# Altium integrated library Linear Technology Power Management Hot Swap Controllers.IntLib: 992 symbols (part 2 of 93)
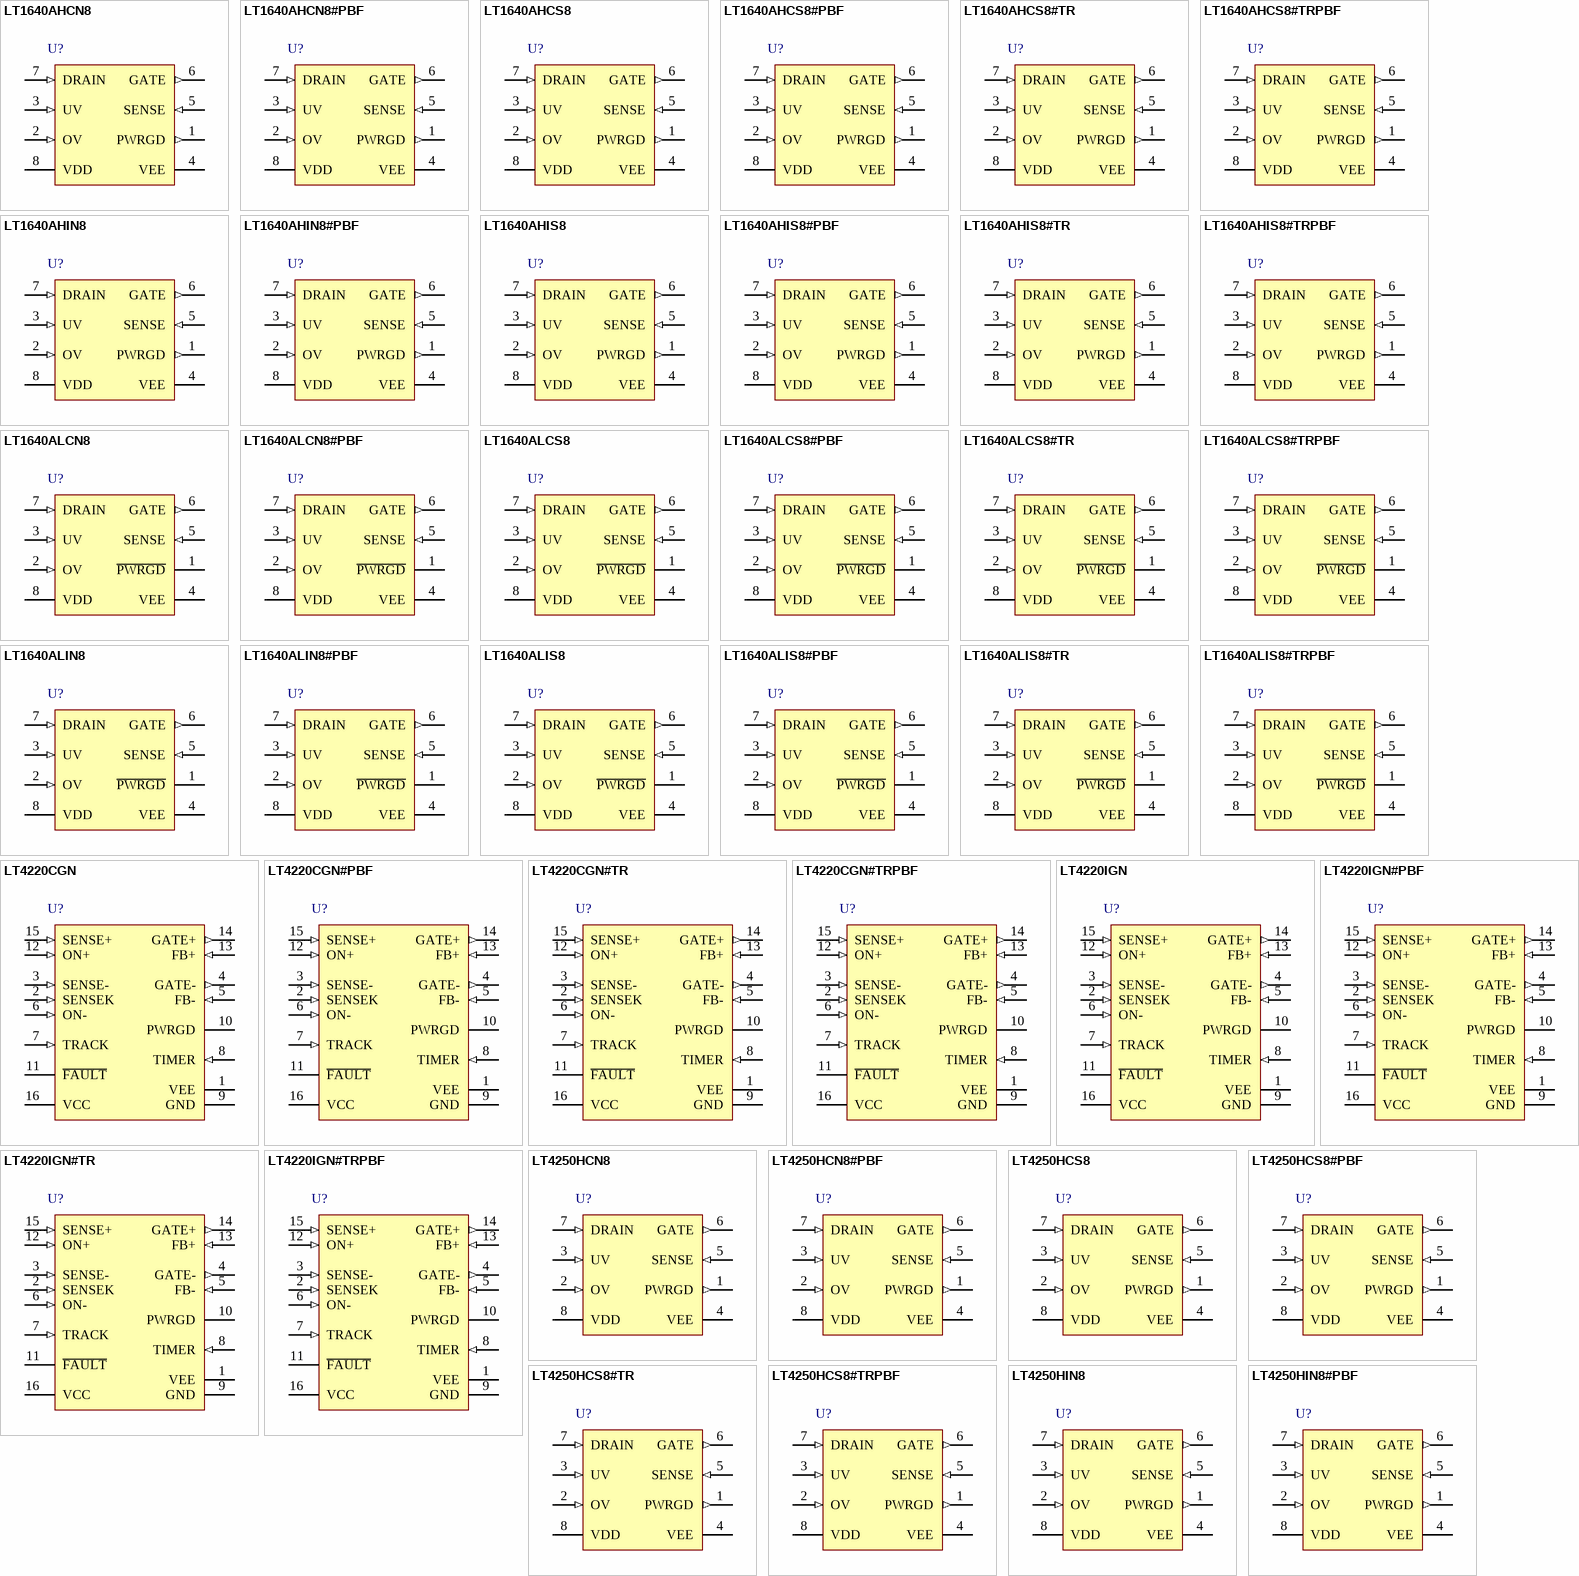
[diagram p38: symbols LT1640AHCN8 to LT4250HIN8#PBF]

## LT4220CGN#PBF
designator U?
Dual Supply Hot Swap Controller, +/-2.7 to +/-16.5 V Vin, 16-pin SOP (GN-16), 0 to 70 degC, Pb-Free; Manufacturer: Linear Technology; PartNumber: LT4220CGN#PBF; Active Limiting: yes; Circuit Breaker Accuracy(%): 17; Circuit Breaker Threshold: 48 mV, -52 mV; Circuit Breakers(#): 2; Extended Temp: C, I; Fast Comparator: no; In-Rush Current: Active; PackageVersion: Rev. B, 03/2012; PackageReference: GN-16; PackageDescription: 16-Pin Plastic SSOP, Body 4.9 x 3.9 mm, Pitch 0.635 mm; Supplier 1: Digi-Key; Supplier Part Number 1: LT4220CGN#PBF-ND; Supplier 2: Farnell; Supplier Part Number 2: 1273823; Supplier 3: Newark; Supplier Part Number 3: 57M8642; Fault: yes; Foldback: yes; Power Good: yes; Reset: no; RoHS: TRUE; Vin Range: +/-2.7 to +/-16.5 V; Mounting Technology: Surface Mount; ComponentLink1Description: Manufacturer URL; ComponentLink1URL: http://www.linear.com/; ComponentLink2Description: Datasheet; ComponentLink2URL: http://cds.linear.com/docs/en/datasheet/4220f.pdf; ComponentLink3Description: Package Specification; ComponentLink3URL: http://cds.linear.com/docs/en/packaging/05081641_B_GN16.pdf
footprint LT-GN-16_N (SOP, 16-Leads, Body 5x4mm, Pitch 0.635mm, IPC Medium Density)
footprint LT-GN-16_L (SOP, 16-Leads, Body 5x4mm, Pitch 0.635mm, IPC High Density)
footprint LT-GN-16_M (SOP, 16-Leads, Body 5x4mm, Pitch 0.635mm, IPC Low Density)
pins: 1 VEE (power) "Negative Supply. The negative supply input ranges from -2.7V to -16.5V for normal operation. IEE is typically -1.6mA. An internal undervoltage lockout circuit disables the device for inputs greater than -2.45V. A 10 ohm, 1 (See Datasheet)", 2 SENSEK (in) "Negative Supply Current Limit Kelvin Sense Pin. Connect to VIN-.", 3 SENSE- (in) "Negative Supply Current Limit Sense Pin. A sense resistor is placed in the supply path between SENSEK and SENSE-. The current limit circuit will regulate the voltage across the sense resistor to -50mV (SENSEK - SENSE-) when (See Datasheet)", 4 GATE- (out) "Gate Drive for the External Negative Supply N-Channel FET. An internal 10uA current source drives the pin. An external capacitor connected from the GATE- pin to VOUT- will control the rising slope of the VOUT- signal. The (See Datasheet)", 5 FB- (in) "Negative Power Good Comparator Input. This pin monitors the negative output voltage (VOUT-) with an external resistive divider. When the voltage on FB- is below -1.24V and the initial GATE- drive voltage has reached a (See Datasheet)", 6 ON- (in) "The Negative Supply Good Comparator Input. This pin monitors the negative input voltage (VEE) with an external resistive divider for undervoltage lockout. When the voltage at the ON- pin is below the VON-H high-to-low (See Datasheet)", 7 TRACK (in) "Supply Tracking Mode Control. If the TRACK pin is pulled high, the internal supply tracking circuit will be enabled during start-up. The TRACK circuit monitors the FB+ and the FB- pins to keep their magnitude within a small (See Datasheet)", 8 TIMER (in) "Fault Time Out Control. An external timing capacitor at this pin programs the maximum time the part is allowed to remain in current limit before issuing a fault and turning off the external FETs. Additionally, for (See Datasheet)", 9 GND (power) "Supply Ground Pin.", 10 PWRGD (hiz) "Open-Collector Output to GND. PWRGD goes to high impedance after the initial GATE- and final GATE+ pins have reached their maximum voltage and after the FB+ pin goes above 1.24V low-to-high threshold and after the FB- pin (See Datasheet)", 11 ~{FAULT} (hiz) "Open-Collector Output to GND. The F\A\U\L\T pin is pulled low whenever the TIMER pin rises above VTIMERH (1.24V) threshold, thereby setting the internal fault latch. It goes to high impedance whenever the internal fault (See Datasheet)", 12 ON+ (in) "Positive Supply Good Comparator Input. It monitors the positive input voltage (VCC) with an external resistive divider for undervoltage lockout. When the voltage on ON+ is above the VON+H high-to-low threshold (1.24V) the (See Datasheet)", 13 FB+ (in) "Positive Power Good Comparator Input. This pin monitors the positive output voltage (VOUT+) with an external resistor divider. When the voltage on FB+ is above the VFB+H low-to-high threshold (1.24V) and the GATE+ drive (See Datasheet)", 14 GATE+ (out) "High Side Gate Drive for the External Positive Supply N-Channel FET. An internal charge pump guarantees at least 3.5V above VCC, for supply voltages at +/-2.7V increasing to a minimum of 5V above VCC for supply voltages (See Datasheet)", 15 SENSE+ (in) "Positive Supply Current Limit Sense Pin. A sense resistor must be placed in the supply path between VCC and SENSE+. The current limit circuit will regulate the voltage across the sense resistor to 50mV (VCC - SENSE+) when (See Datasheet)", 16 VCC (power) "Positive Supply. The positive supply input ranges from 2.7V to 16.5V for normal operation. ICC is typically 2.7mA. An internal undervoltage lockout circuit disables the chip for inputs less than 2.45V. Place a 0.1mF bypass (See Datasheet)"

## LT4220CGN#TR
designator U?
Dual Supply Hot Swap Controller, +/-2.7 to +/-16.5 V Vin, 16-pin SOP (GN-16), 0 to 70 degC, Tape and Reel; Manufacturer: Linear Technology; PartNumber: LT4220CGN#TR; Active Limiting: yes; Circuit Breaker Accuracy(%): 17; Circuit Breaker Threshold: 48 mV, -52 mV; Circuit Breakers(#): 2; Extended Temp: C, I; Fast Comparator: no; In-Rush Current: Active; PackageVersion: Rev. B, 03/2012; PackageReference: GN-16; PackageDescription: 16-Pin Plastic SSOP, Body 4.9 x 3.9 mm, Pitch 0.635 mm; Supplier 1: Digi-Key; Supplier Part Number 1: LT4220CGN#TR-ND; Fault: yes; Foldback: yes; Packing: Tape and Reel; Power Good: yes; Reset: no; RoHS: FALSE; Vin Range: +/-2.7 to +/-16.5 V; Mounting Technology: Surface Mount; ComponentLink1Description: Manufacturer URL; ComponentLink1URL: http://www.linear.com/; ComponentLink2Description: Datasheet; ComponentLink2URL: http://cds.linear.com/docs/en/datasheet/4220f.pdf; ComponentLink3Description: Package Specification; ComponentLink3URL: http://cds.linear.com/docs/en/packaging/05081641_B_GN16.pdf
footprint LT-GN-16_N (SOP, 16-Leads, Body 5x4mm, Pitch 0.635mm, IPC Medium Density)
footprint LT-GN-16_L (SOP, 16-Leads, Body 5x4mm, Pitch 0.635mm, IPC High Density)
footprint LT-GN-16_M (SOP, 16-Leads, Body 5x4mm, Pitch 0.635mm, IPC Low Density)
pins: 1 VEE (power) "Negative Supply. The negative supply input ranges from -2.7V to -16.5V for normal operation. IEE is typically -1.6mA. An internal undervoltage lockout circuit disables the device for inputs greater than -2.45V. A 10 ohm, 1 (See Datasheet)", 2 SENSEK (in) "Negative Supply Current Limit Kelvin Sense Pin. Connect to VIN-.", 3 SENSE- (in) "Negative Supply Current Limit Sense Pin. A sense resistor is placed in the supply path between SENSEK and SENSE-. The current limit circuit will regulate the voltage across the sense resistor to -50mV (SENSEK - SENSE-) when (See Datasheet)", 4 GATE- (out) "Gate Drive for the External Negative Supply N-Channel FET. An internal 10uA current source drives the pin. An external capacitor connected from the GATE- pin to VOUT- will control the rising slope of the VOUT- signal. The (See Datasheet)", 5 FB- (in) "Negative Power Good Comparator Input. This pin monitors the negative output voltage (VOUT-) with an external resistive divider. When the voltage on FB- is below -1.24V and the initial GATE- drive voltage has reached a (See Datasheet)", 6 ON- (in) "The Negative Supply Good Comparator Input. This pin monitors the negative input voltage (VEE) with an external resistive divider for undervoltage lockout. When the voltage at the ON- pin is below the VON-H high-to-low (See Datasheet)", 7 TRACK (in) "Supply Tracking Mode Control. If the TRACK pin is pulled high, the internal supply tracking circuit will be enabled during start-up. The TRACK circuit monitors the FB+ and the FB- pins to keep their magnitude within a small (See Datasheet)", 8 TIMER (in) "Fault Time Out Control. An external timing capacitor at this pin programs the maximum time the part is allowed to remain in current limit before issuing a fault and turning off the external FETs. Additionally, for (See Datasheet)", 9 GND (power) "Supply Ground Pin.", 10 PWRGD (hiz) "Open-Collector Output to GND. PWRGD goes to high impedance after the initial GATE- and final GATE+ pins have reached their maximum voltage and after the FB+ pin goes above 1.24V low-to-high threshold and after the FB- pin (See Datasheet)", 11 ~{FAULT} (hiz) "Open-Collector Output to GND. The F\A\U\L\T pin is pulled low whenever the TIMER pin rises above VTIMERH (1.24V) threshold, thereby setting the internal fault latch. It goes to high impedance whenever the internal fault (See Datasheet)", 12 ON+ (in) "Positive Supply Good Comparator Input. It monitors the positive input voltage (VCC) with an external resistive divider for undervoltage lockout. When the voltage on ON+ is above the VON+H high-to-low threshold (1.24V) the (See Datasheet)", 13 FB+ (in) "Positive Power Good Comparator Input. This pin monitors the positive output voltage (VOUT+) with an external resistor divider. When the voltage on FB+ is above the VFB+H low-to-high threshold (1.24V) and the GATE+ drive (See Datasheet)", 14 GATE+ (out) "High Side Gate Drive for the External Positive Supply N-Channel FET. An internal charge pump guarantees at least 3.5V above VCC, for supply voltages at +/-2.7V increasing to a minimum of 5V above VCC for supply voltages (See Datasheet)", 15 SENSE+ (in) "Positive Supply Current Limit Sense Pin. A sense resistor must be placed in the supply path between VCC and SENSE+. The current limit circuit will regulate the voltage across the sense resistor to 50mV (VCC - SENSE+) when (See Datasheet)", 16 VCC (power) "Positive Supply. The positive supply input ranges from 2.7V to 16.5V for normal operation. ICC is typically 2.7mA. An internal undervoltage lockout circuit disables the chip for inputs less than 2.45V. Place a 0.1mF bypass (See Datasheet)"

## LT4220CGN#TRPBF
designator U?
Dual Supply Hot Swap Controller, +/-2.7 to +/-16.5 V Vin, 16-pin SOP (GN-16), 0 to 70 degC, Pb-Free, Tape and Reel; Manufacturer: Linear Technology; PartNumber: LT4220CGN#TRPBF; Active Limiting: yes; Circuit Breaker Accuracy(%): 17; Circuit Breaker Threshold: 48 mV, -52 mV; Circuit Breakers(#): 2; Extended Temp: C, I; Fast Comparator: no; In-Rush Current: Active; PackageVersion: Rev. B, 03/2012; PackageReference: GN-16; PackageDescription: 16-Pin Plastic SSOP, Body 4.9 x 3.9 mm, Pitch 0.635 mm; Supplier 1: Digi-Key; Supplier Part Number 1: LT4220CGN#TRPBF-ND; Fault: yes; Foldback: yes; Packing: Tape and Reel; Power Good: yes; Reset: no; RoHS: TRUE; Vin Range: +/-2.7 to +/-16.5 V; Mounting Technology: Surface Mount; ComponentLink1Description: Manufacturer URL; ComponentLink1URL: http://www.linear.com/; ComponentLink2Description: Datasheet; ComponentLink2URL: http://cds.linear.com/docs/en/datasheet/4220f.pdf; ComponentLink3Description: Package Specification; ComponentLink3URL: http://cds.linear.com/docs/en/packaging/05081641_B_GN16.pdf
footprint LT-GN-16_N (SOP, 16-Leads, Body 5x4mm, Pitch 0.635mm, IPC Medium Density)
footprint LT-GN-16_L (SOP, 16-Leads, Body 5x4mm, Pitch 0.635mm, IPC High Density)
footprint LT-GN-16_M (SOP, 16-Leads, Body 5x4mm, Pitch 0.635mm, IPC Low Density)
pins: 1 VEE (power) "Negative Supply. The negative supply input ranges from -2.7V to -16.5V for normal operation. IEE is typically -1.6mA. An internal undervoltage lockout circuit disables the device for inputs greater than -2.45V. A 10 ohm, 1 (See Datasheet)", 2 SENSEK (in) "Negative Supply Current Limit Kelvin Sense Pin. Connect to VIN-.", 3 SENSE- (in) "Negative Supply Current Limit Sense Pin. A sense resistor is placed in the supply path between SENSEK and SENSE-. The current limit circuit will regulate the voltage across the sense resistor to -50mV (SENSEK - SENSE-) when (See Datasheet)", 4 GATE- (out) "Gate Drive for the External Negative Supply N-Channel FET. An internal 10uA current source drives the pin. An external capacitor connected from the GATE- pin to VOUT- will control the rising slope of the VOUT- signal. The (See Datasheet)", 5 FB- (in) "Negative Power Good Comparator Input. This pin monitors the negative output voltage (VOUT-) with an external resistive divider. When the voltage on FB- is below -1.24V and the initial GATE- drive voltage has reached a (See Datasheet)", 6 ON- (in) "The Negative Supply Good Comparator Input. This pin monitors the negative input voltage (VEE) with an external resistive divider for undervoltage lockout. When the voltage at the ON- pin is below the VON-H high-to-low (See Datasheet)", 7 TRACK (in) "Supply Tracking Mode Control. If the TRACK pin is pulled high, the internal supply tracking circuit will be enabled during start-up. The TRACK circuit monitors the FB+ and the FB- pins to keep their magnitude within a small (See Datasheet)", 8 TIMER (in) "Fault Time Out Control. An external timing capacitor at this pin programs the maximum time the part is allowed to remain in current limit before issuing a fault and turning off the external FETs. Additionally, for (See Datasheet)", 9 GND (power) "Supply Ground Pin.", 10 PWRGD (hiz) "Open-Collector Output to GND. PWRGD goes to high impedance after the initial GATE- and final GATE+ pins have reached their maximum voltage and after the FB+ pin goes above 1.24V low-to-high threshold and after the FB- pin (See Datasheet)", 11 ~{FAULT} (hiz) "Open-Collector Output to GND. The F\A\U\L\T pin is pulled low whenever the TIMER pin rises above VTIMERH (1.24V) threshold, thereby setting the internal fault latch. It goes to high impedance whenever the internal fault (See Datasheet)", 12 ON+ (in) "Positive Supply Good Comparator Input. It monitors the positive input voltage (VCC) with an external resistive divider for undervoltage lockout. When the voltage on ON+ is above the VON+H high-to-low threshold (1.24V) the (See Datasheet)", 13 FB+ (in) "Positive Power Good Comparator Input. This pin monitors the positive output voltage (VOUT+) with an external resistor divider. When the voltage on FB+ is above the VFB+H low-to-high threshold (1.24V) and the GATE+ drive (See Datasheet)", 14 GATE+ (out) "High Side Gate Drive for the External Positive Supply N-Channel FET. An internal charge pump guarantees at least 3.5V above VCC, for supply voltages at +/-2.7V increasing to a minimum of 5V above VCC for supply voltages (See Datasheet)", 15 SENSE+ (in) "Positive Supply Current Limit Sense Pin. A sense resistor must be placed in the supply path between VCC and SENSE+. The current limit circuit will regulate the voltage across the sense resistor to 50mV (VCC - SENSE+) when (See Datasheet)", 16 VCC (power) "Positive Supply. The positive supply input ranges from 2.7V to 16.5V for normal operation. ICC is typically 2.7mA. An internal undervoltage lockout circuit disables the chip for inputs less than 2.45V. Place a 0.1mF bypass (See Datasheet)"

## LT4220IGN
designator U?
Dual Supply Hot Swap Controller, +/-2.7 to +/-16.5 V Vin, 16-pin SOP (GN-16), -40 to 85 degC; Manufacturer: Linear Technology; PartNumber: LT4220IGN; Active Limiting: yes; Circuit Breaker Accuracy(%): 17; Circuit Breaker Threshold: 48 mV, -52 mV; Circuit Breakers(#): 2; Extended Temp: C, I; Fast Comparator: no; In-Rush Current: Active; PackageVersion: Rev. B, 03/2012; PackageReference: GN-16; PackageDescription: 16-Pin Plastic SSOP, Body 4.9 x 3.9 mm, Pitch 0.635 mm; Supplier 1: Digi-Key; Supplier Part Number 1: LT4220IGN-ND; Supplier 2: Newark; Supplier Part Number 2: 57M8645; Fault: yes; Foldback: yes; Power Good: yes; Reset: no; RoHS: FALSE; Vin Range: +/-2.7 to +/-16.5 V; Mounting Technology: Surface Mount; ComponentLink1Description: Manufacturer URL; ComponentLink1URL: http://www.linear.com/; ComponentLink2Description: Datasheet; ComponentLink2URL: http://cds.linear.com/docs/en/datasheet/4220f.pdf; ComponentLink3Description: Package Specification; ComponentLink3URL: http://cds.linear.com/docs/en/packaging/05081641_B_GN16.pdf
footprint LT-GN-16_N (SOP, 16-Leads, Body 5x4mm, Pitch 0.635mm, IPC Medium Density)
footprint LT-GN-16_L (SOP, 16-Leads, Body 5x4mm, Pitch 0.635mm, IPC High Density)
footprint LT-GN-16_M (SOP, 16-Leads, Body 5x4mm, Pitch 0.635mm, IPC Low Density)
pins: 1 VEE (power) "Negative Supply. The negative supply input ranges from -2.7V to -16.5V for normal operation. IEE is typically -1.6mA. An internal undervoltage lockout circuit disables the device for inputs greater than -2.45V. A 10 ohm, 1 (See Datasheet)", 2 SENSEK (in) "Negative Supply Current Limit Kelvin Sense Pin. Connect to VIN-.", 3 SENSE- (in) "Negative Supply Current Limit Sense Pin. A sense resistor is placed in the supply path between SENSEK and SENSE-. The current limit circuit will regulate the voltage across the sense resistor to -50mV (SENSEK - SENSE-) when (See Datasheet)", 4 GATE- (out) "Gate Drive for the External Negative Supply N-Channel FET. An internal 10uA current source drives the pin. An external capacitor connected from the GATE- pin to VOUT- will control the rising slope of the VOUT- signal. The (See Datasheet)", 5 FB- (in) "Negative Power Good Comparator Input. This pin monitors the negative output voltage (VOUT-) with an external resistive divider. When the voltage on FB- is below -1.24V and the initial GATE- drive voltage has reached a (See Datasheet)", 6 ON- (in) "The Negative Supply Good Comparator Input. This pin monitors the negative input voltage (VEE) with an external resistive divider for undervoltage lockout. When the voltage at the ON- pin is below the VON-H high-to-low (See Datasheet)", 7 TRACK (in) "Supply Tracking Mode Control. If the TRACK pin is pulled high, the internal supply tracking circuit will be enabled during start-up. The TRACK circuit monitors the FB+ and the FB- pins to keep their magnitude within a small (See Datasheet)", 8 TIMER (in) "Fault Time Out Control. An external timing capacitor at this pin programs the maximum time the part is allowed to remain in current limit before issuing a fault and turning off the external FETs. Additionally, for (See Datasheet)", 9 GND (power) "Supply Ground Pin.", 10 PWRGD (hiz) "Open-Collector Output to GND. PWRGD goes to high impedance after the initial GATE- and final GATE+ pins have reached their maximum voltage and after the FB+ pin goes above 1.24V low-to-high threshold and after the FB- pin (See Datasheet)", 11 ~{FAULT} (hiz) "Open-Collector Output to GND. The F\A\U\L\T pin is pulled low whenever the TIMER pin rises above VTIMERH (1.24V) threshold, thereby setting the internal fault latch. It goes to high impedance whenever the internal fault (See Datasheet)", 12 ON+ (in) "Positive Supply Good Comparator Input. It monitors the positive input voltage (VCC) with an external resistive divider for undervoltage lockout. When the voltage on ON+ is above the VON+H high-to-low threshold (1.24V) the (See Datasheet)", 13 FB+ (in) "Positive Power Good Comparator Input. This pin monitors the positive output voltage (VOUT+) with an external resistor divider. When the voltage on FB+ is above the VFB+H low-to-high threshold (1.24V) and the GATE+ drive (See Datasheet)", 14 GATE+ (out) "High Side Gate Drive for the External Positive Supply N-Channel FET. An internal charge pump guarantees at least 3.5V above VCC, for supply voltages at +/-2.7V increasing to a minimum of 5V above VCC for supply voltages (See Datasheet)", 15 SENSE+ (in) "Positive Supply Current Limit Sense Pin. A sense resistor must be placed in the supply path between VCC and SENSE+. The current limit circuit will regulate the voltage across the sense resistor to 50mV (VCC - SENSE+) when (See Datasheet)", 16 VCC (power) "Positive Supply. The positive supply input ranges from 2.7V to 16.5V for normal operation. ICC is typically 2.7mA. An internal undervoltage lockout circuit disables the chip for inputs less than 2.45V. Place a 0.1mF bypass (See Datasheet)"

## LT4220IGN#PBF
designator U?
Dual Supply Hot Swap Controller, +/-2.7 to +/-16.5 V Vin, 16-pin SOP (GN-16), -40 to 85 degC, Pb-Free; Manufacturer: Linear Technology; PartNumber: LT4220IGN#PBF; Active Limiting: yes; Circuit Breaker Accuracy(%): 17; Circuit Breaker Threshold: 48 mV, -52 mV; Circuit Breakers(#): 2; Extended Temp: C, I; Fast Comparator: no; In-Rush Current: Active; PackageVersion: Rev. B, 03/2012; PackageReference: GN-16; PackageDescription: 16-Pin Plastic SSOP, Body 4.9 x 3.9 mm, Pitch 0.635 mm; Supplier 1: Digi-Key; Supplier Part Number 1: LT4220IGN#PBF-ND; Fault: yes; Foldback: yes; Power Good: yes; Reset: no; RoHS: TRUE; Vin Range: +/-2.7 to +/-16.5 V; Mounting Technology: Surface Mount; ComponentLink1Description: Manufacturer URL; ComponentLink1URL: http://www.linear.com/; ComponentLink2Description: Datasheet; ComponentLink2URL: http://cds.linear.com/docs/en/datasheet/4220f.pdf; ComponentLink3Description: Package Specification; ComponentLink3URL: http://cds.linear.com/docs/en/packaging/05081641_B_GN16.pdf
footprint LT-GN-16_N (SOP, 16-Leads, Body 5x4mm, Pitch 0.635mm, IPC Medium Density)
footprint LT-GN-16_L (SOP, 16-Leads, Body 5x4mm, Pitch 0.635mm, IPC High Density)
footprint LT-GN-16_M (SOP, 16-Leads, Body 5x4mm, Pitch 0.635mm, IPC Low Density)
pins: 1 VEE (power) "Negative Supply. The negative supply input ranges from -2.7V to -16.5V for normal operation. IEE is typically -1.6mA. An internal undervoltage lockout circuit disables the device for inputs greater than -2.45V. A 10 ohm, 1 (See Datasheet)", 2 SENSEK (in) "Negative Supply Current Limit Kelvin Sense Pin. Connect to VIN-.", 3 SENSE- (in) "Negative Supply Current Limit Sense Pin. A sense resistor is placed in the supply path between SENSEK and SENSE-. The current limit circuit will regulate the voltage across the sense resistor to -50mV (SENSEK - SENSE-) when (See Datasheet)", 4 GATE- (out) "Gate Drive for the External Negative Supply N-Channel FET. An internal 10uA current source drives the pin. An external capacitor connected from the GATE- pin to VOUT- will control the rising slope of the VOUT- signal. The (See Datasheet)", 5 FB- (in) "Negative Power Good Comparator Input. This pin monitors the negative output voltage (VOUT-) with an external resistive divider. When the voltage on FB- is below -1.24V and the initial GATE- drive voltage has reached a (See Datasheet)", 6 ON- (in) "The Negative Supply Good Comparator Input. This pin monitors the negative input voltage (VEE) with an external resistive divider for undervoltage lockout. When the voltage at the ON- pin is below the VON-H high-to-low (See Datasheet)", 7 TRACK (in) "Supply Tracking Mode Control. If the TRACK pin is pulled high, the internal supply tracking circuit will be enabled during start-up. The TRACK circuit monitors the FB+ and the FB- pins to keep their magnitude within a small (See Datasheet)", 8 TIMER (in) "Fault Time Out Control. An external timing capacitor at this pin programs the maximum time the part is allowed to remain in current limit before issuing a fault and turning off the external FETs. Additionally, for (See Datasheet)", 9 GND (power) "Supply Ground Pin.", 10 PWRGD (hiz) "Open-Collector Output to GND. PWRGD goes to high impedance after the initial GATE- and final GATE+ pins have reached their maximum voltage and after the FB+ pin goes above 1.24V low-to-high threshold and after the FB- pin (See Datasheet)", 11 ~{FAULT} (hiz) "Open-Collector Output to GND. The F\A\U\L\T pin is pulled low whenever the TIMER pin rises above VTIMERH (1.24V) threshold, thereby setting the internal fault latch. It goes to high impedance whenever the internal fault (See Datasheet)", 12 ON+ (in) "Positive Supply Good Comparator Input. It monitors the positive input voltage (VCC) with an external resistive divider for undervoltage lockout. When the voltage on ON+ is above the VON+H high-to-low threshold (1.24V) the (See Datasheet)", 13 FB+ (in) "Positive Power Good Comparator Input. This pin monitors the positive output voltage (VOUT+) with an external resistor divider. When the voltage on FB+ is above the VFB+H low-to-high threshold (1.24V) and the GATE+ drive (See Datasheet)", 14 GATE+ (out) "High Side Gate Drive for the External Positive Supply N-Channel FET. An internal charge pump guarantees at least 3.5V above VCC, for supply voltages at +/-2.7V increasing to a minimum of 5V above VCC for supply voltages (See Datasheet)", 15 SENSE+ (in) "Positive Supply Current Limit Sense Pin. A sense resistor must be placed in the supply path between VCC and SENSE+. The current limit circuit will regulate the voltage across the sense resistor to 50mV (VCC - SENSE+) when (See Datasheet)", 16 VCC (power) "Positive Supply. The positive supply input ranges from 2.7V to 16.5V for normal operation. ICC is typically 2.7mA. An internal undervoltage lockout circuit disables the chip for inputs less than 2.45V. Place a 0.1mF bypass (See Datasheet)"

## LT4220IGN#TR
designator U?
Dual Supply Hot Swap Controller, +/-2.7 to +/-16.5 V Vin, 16-pin SOP (GN-16), -40 to 85 degC, Tape and Reel; Manufacturer: Linear Technology; PartNumber: LT4220IGN#TR; Active Limiting: yes; Circuit Breaker Accuracy(%): 17; Circuit Breaker Threshold: 48 mV, -52 mV; Circuit Breakers(#): 2; Extended Temp: C, I; Fast Comparator: no; In-Rush Current: Active; PackageVersion: Rev. B, 03/2012; PackageReference: GN-16; PackageDescription: 16-Pin Plastic SSOP, Body 4.9 x 3.9 mm, Pitch 0.635 mm; Supplier 1: Digi-Key; Supplier Part Number 1: LT4220IGN#TR-ND; Fault: yes; Foldback: yes; Packing: Tape and Reel; Power Good: yes; Reset: no; RoHS: FALSE; Vin Range: +/-2.7 to +/-16.5 V; Mounting Technology: Surface Mount; ComponentLink1Description: Manufacturer URL; ComponentLink1URL: http://www.linear.com/; ComponentLink2Description: Datasheet; ComponentLink2URL: http://cds.linear.com/docs/en/datasheet/4220f.pdf; ComponentLink3Description: Package Specification; ComponentLink3URL: http://cds.linear.com/docs/en/packaging/05081641_B_GN16.pdf
footprint LT-GN-16_N (SOP, 16-Leads, Body 5x4mm, Pitch 0.635mm, IPC Medium Density)
footprint LT-GN-16_L (SOP, 16-Leads, Body 5x4mm, Pitch 0.635mm, IPC High Density)
footprint LT-GN-16_M (SOP, 16-Leads, Body 5x4mm, Pitch 0.635mm, IPC Low Density)
pins: 1 VEE (power) "Negative Supply. The negative supply input ranges from -2.7V to -16.5V for normal operation. IEE is typically -1.6mA. An internal undervoltage lockout circuit disables the device for inputs greater than -2.45V. A 10 ohm, 1 (See Datasheet)", 2 SENSEK (in) "Negative Supply Current Limit Kelvin Sense Pin. Connect to VIN-.", 3 SENSE- (in) "Negative Supply Current Limit Sense Pin. A sense resistor is placed in the supply path between SENSEK and SENSE-. The current limit circuit will regulate the voltage across the sense resistor to -50mV (SENSEK - SENSE-) when (See Datasheet)", 4 GATE- (out) "Gate Drive for the External Negative Supply N-Channel FET. An internal 10uA current source drives the pin. An external capacitor connected from the GATE- pin to VOUT- will control the rising slope of the VOUT- signal. The (See Datasheet)", 5 FB- (in) "Negative Power Good Comparator Input. This pin monitors the negative output voltage (VOUT-) with an external resistive divider. When the voltage on FB- is below -1.24V and the initial GATE- drive voltage has reached a (See Datasheet)", 6 ON- (in) "The Negative Supply Good Comparator Input. This pin monitors the negative input voltage (VEE) with an external resistive divider for undervoltage lockout. When the voltage at the ON- pin is below the VON-H high-to-low (See Datasheet)", 7 TRACK (in) "Supply Tracking Mode Control. If the TRACK pin is pulled high, the internal supply tracking circuit will be enabled during start-up. The TRACK circuit monitors the FB+ and the FB- pins to keep their magnitude within a small (See Datasheet)", 8 TIMER (in) "Fault Time Out Control. An external timing capacitor at this pin programs the maximum time the part is allowed to remain in current limit before issuing a fault and turning off the external FETs. Additionally, for (See Datasheet)", 9 GND (power) "Supply Ground Pin.", 10 PWRGD (hiz) "Open-Collector Output to GND. PWRGD goes to high impedance after the initial GATE- and final GATE+ pins have reached their maximum voltage and after the FB+ pin goes above 1.24V low-to-high threshold and after the FB- pin (See Datasheet)", 11 ~{FAULT} (hiz) "Open-Collector Output to GND. The F\A\U\L\T pin is pulled low whenever the TIMER pin rises above VTIMERH (1.24V) threshold, thereby setting the internal fault latch. It goes to high impedance whenever the internal fault (See Datasheet)", 12 ON+ (in) "Positive Supply Good Comparator Input. It monitors the positive input voltage (VCC) with an external resistive divider for undervoltage lockout. When the voltage on ON+ is above the VON+H high-to-low threshold (1.24V) the (See Datasheet)", 13 FB+ (in) "Positive Power Good Comparator Input. This pin monitors the positive output voltage (VOUT+) with an external resistor divider. When the voltage on FB+ is above the VFB+H low-to-high threshold (1.24V) and the GATE+ drive (See Datasheet)", 14 GATE+ (out) "High Side Gate Drive for the External Positive Supply N-Channel FET. An internal charge pump guarantees at least 3.5V above VCC, for supply voltages at +/-2.7V increasing to a minimum of 5V above VCC for supply voltages (See Datasheet)", 15 SENSE+ (in) "Positive Supply Current Limit Sense Pin. A sense resistor must be placed in the supply path between VCC and SENSE+. The current limit circuit will regulate the voltage across the sense resistor to 50mV (VCC - SENSE+) when (See Datasheet)", 16 VCC (power) "Positive Supply. The positive supply input ranges from 2.7V to 16.5V for normal operation. ICC is typically 2.7mA. An internal undervoltage lockout circuit disables the chip for inputs less than 2.45V. Place a 0.1mF bypass (See Datasheet)"

## LT4220IGN#TRPBF
designator U?
Dual Supply Hot Swap Controller, +/-2.7 to +/-16.5 V Vin, 16-pin SOP (GN-16), -40 to 85 degC, Pb-Free, Tape and Reel; Manufacturer: Linear Technology; PartNumber: LT4220IGN#TRPBF; Active Limiting: yes; Circuit Breaker Accuracy(%): 17; Circuit Breaker Threshold: 48 mV, -52 mV; Circuit Breakers(#): 2; Extended Temp: C, I; Fast Comparator: no; In-Rush Current: Active; PackageVersion: Rev. B, 03/2012; PackageReference: GN-16; PackageDescription: 16-Pin Plastic SSOP, Body 4.9 x 3.9 mm, Pitch 0.635 mm; Supplier 1: Digi-Key; Supplier Part Number 1: LT4220IGN#TRPBF-ND; Fault: yes; Foldback: yes; Packing: Tape and Reel; Power Good: yes; Reset: no; RoHS: TRUE; Vin Range: +/-2.7 to +/-16.5 V; Mounting Technology: Surface Mount; ComponentLink1Description: Manufacturer URL; ComponentLink1URL: http://www.linear.com/; ComponentLink2Description: Datasheet; ComponentLink2URL: http://cds.linear.com/docs/en/datasheet/4220f.pdf; ComponentLink3Description: Package Specification; ComponentLink3URL: http://cds.linear.com/docs/en/packaging/05081641_B_GN16.pdf
footprint LT-GN-16_N (SOP, 16-Leads, Body 5x4mm, Pitch 0.635mm, IPC Medium Density)
footprint LT-GN-16_L (SOP, 16-Leads, Body 5x4mm, Pitch 0.635mm, IPC High Density)
footprint LT-GN-16_M (SOP, 16-Leads, Body 5x4mm, Pitch 0.635mm, IPC Low Density)
pins: 1 VEE (power) "Negative Supply. The negative supply input ranges from -2.7V to -16.5V for normal operation. IEE is typically -1.6mA. An internal undervoltage lockout circuit disables the device for inputs greater than -2.45V. A 10 ohm, 1 (See Datasheet)", 2 SENSEK (in) "Negative Supply Current Limit Kelvin Sense Pin. Connect to VIN-.", 3 SENSE- (in) "Negative Supply Current Limit Sense Pin. A sense resistor is placed in the supply path between SENSEK and SENSE-. The current limit circuit will regulate the voltage across the sense resistor to -50mV (SENSEK - SENSE-) when (See Datasheet)", 4 GATE- (out) "Gate Drive for the External Negative Supply N-Channel FET. An internal 10uA current source drives the pin. An external capacitor connected from the GATE- pin to VOUT- will control the rising slope of the VOUT- signal. The (See Datasheet)", 5 FB- (in) "Negative Power Good Comparator Input. This pin monitors the negative output voltage (VOUT-) with an external resistive divider. When the voltage on FB- is below -1.24V and the initial GATE- drive voltage has reached a (See Datasheet)", 6 ON- (in) "The Negative Supply Good Comparator Input. This pin monitors the negative input voltage (VEE) with an external resistive divider for undervoltage lockout. When the voltage at the ON- pin is below the VON-H high-to-low (See Datasheet)", 7 TRACK (in) "Supply Tracking Mode Control. If the TRACK pin is pulled high, the internal supply tracking circuit will be enabled during start-up. The TRACK circuit monitors the FB+ and the FB- pins to keep their magnitude within a small (See Datasheet)", 8 TIMER (in) "Fault Time Out Control. An external timing capacitor at this pin programs the maximum time the part is allowed to remain in current limit before issuing a fault and turning off the external FETs. Additionally, for (See Datasheet)", 9 GND (power) "Supply Ground Pin.", 10 PWRGD (hiz) "Open-Collector Output to GND. PWRGD goes to high impedance after the initial GATE- and final GATE+ pins have reached their maximum voltage and after the FB+ pin goes above 1.24V low-to-high threshold and after the FB- pin (See Datasheet)", 11 ~{FAULT} (hiz) "Open-Collector Output to GND. The F\A\U\L\T pin is pulled low whenever the TIMER pin rises above VTIMERH (1.24V) threshold, thereby setting the internal fault latch. It goes to high impedance whenever the internal fault (See Datasheet)", 12 ON+ (in) "Positive Supply Good Comparator Input. It monitors the positive input voltage (VCC) with an external resistive divider for undervoltage lockout. When the voltage on ON+ is above the VON+H high-to-low threshold (1.24V) the (See Datasheet)", 13 FB+ (in) "Positive Power Good Comparator Input. This pin monitors the positive output voltage (VOUT+) with an external resistor divider. When the voltage on FB+ is above the VFB+H low-to-high threshold (1.24V) and the GATE+ drive (See Datasheet)", 14 GATE+ (out) "High Side Gate Drive for the External Positive Supply N-Channel FET. An internal charge pump guarantees at least 3.5V above VCC, for supply voltages at +/-2.7V increasing to a minimum of 5V above VCC for supply voltages (See Datasheet)", 15 SENSE+ (in) "Positive Supply Current Limit Sense Pin. A sense resistor must be placed in the supply path between VCC and SENSE+. The current limit circuit will regulate the voltage across the sense resistor to 50mV (VCC - SENSE+) when (See Datasheet)", 16 VCC (power) "Positive Supply. The positive supply input ranges from 2.7V to 16.5V for normal operation. ICC is typically 2.7mA. An internal undervoltage lockout circuit disables the chip for inputs less than 2.45V. Place a 0.1mF bypass (See Datasheet)"

## LT4250HCN8
designator U?
Negative 48 V Hot Swap Controller, -18 to -80 V Vin, 8-pin DIP (N8-8), 0 to 70 degC; Manufacturer: Linear Technology; PartNumber: LT4250HCN8; Active Limiting: yes; Circuit Breaker Accuracy(%): 20; Circuit Breaker Threshold: 50 mV; Circuit Breakers(#): 1; Extended Temp: C, I; Fast Comparator: no; In-Rush Current: Miller Cap; DatasheetVersion: Rev. A; PackageVersion: Rev. I, 07/2011; PackageReference: N8-8; PackageDescription: 8-Pin PDIP, Body 10.16 x 6.48 mm, Pitch 2.54 mm; Supplier 1: Digi-Key; Supplier Part Number 1: LT4250HCN8-ND; Power Good: yes; RoHS: FALSE; Vin Range: -18 to -80 V; Mounting Technology: Through Hole; ComponentLink1Description: Manufacturer URL; ComponentLink1URL: http://www.linear.com/; ComponentLink2Description: Datasheet; ComponentLink2URL: http://cds.linear.com/docs/en/datasheet/4250lhfa.pdf; ComponentLink3Description: Package Specification; ComponentLink3URL: http://www.linear.com/docs/en/packaging/05081510_I_N8.pdf
footprint LT-N8-8 (DIP, 8-Leads, Body 10.15x6.85mm, Pitch 2.54mm)
pins: 1 PWRGD (out) "Power Good Output Pin.This pin will latch a power good indication when VDRAIN is within VDL of VEE and VGATE is within VGH of deltaVGATE. This pin can be connected directly to the enable pin of a power module.", 2 OV (in) "Analog Overvoltage Input.", 3 UV (in) "Analog Undervoltage Input.", 4 VEE (power) "Negative Supply Voltage Input. Connect to the lower potential of the power supply.", 5 SENSE (in) "Circuit Breaker Sense Pin.", 6 GATE (out) "Gate Drive Output for the External N-channel MOSFET.", 7 DRAIN (in) "Analog Drain Sense Input.", 8 VDD (power) "Positive Supply Voltage Input."

## LT4250HCN8#PBF
designator U?
Negative 48 V Hot Swap Controller, -18 to -80 V Vin, 8-pin DIP (N8-8), 0 to 70 degC, Pb-Free; Manufacturer: Linear Technology; PartNumber: LT4250HCN8#PBF; Active Limiting: yes; Circuit Breaker Accuracy(%): 20; Circuit Breaker Threshold: 50 mV; Circuit Breakers(#): 1; Extended Temp: C, I; Fast Comparator: no; In-Rush Current: Miller Cap; DatasheetVersion: Rev. A; PackageVersion: Rev. I, 07/2011; PackageReference: N8-8; PackageDescription: 8-Pin PDIP, Body 10.16 x 6.48 mm, Pitch 2.54 mm; Supplier 1: Digi-Key; Supplier Part Number 1: LT4250HCN8#PBF-ND; Power Good: yes; RoHS: TRUE; Vin Range: -18 to -80 V; Mounting Technology: Through Hole; ComponentLink1Description: Manufacturer URL; ComponentLink1URL: http://www.linear.com/; ComponentLink2Description: Datasheet; ComponentLink2URL: http://cds.linear.com/docs/en/datasheet/4250lhfa.pdf; ComponentLink3Description: Package Specification; ComponentLink3URL: http://www.linear.com/docs/en/packaging/05081510_I_N8.pdf
footprint LT-N8-8 (DIP, 8-Leads, Body 10.15x6.85mm, Pitch 2.54mm)
pins: 1 PWRGD (out) "Power Good Output Pin.This pin will latch a power good indication when VDRAIN is within VDL of VEE and VGATE is within VGH of deltaVGATE. This pin can be connected directly to the enable pin of a power module.", 2 OV (in) "Analog Overvoltage Input.", 3 UV (in) "Analog Undervoltage Input.", 4 VEE (power) "Negative Supply Voltage Input. Connect to the lower potential of the power supply.", 5 SENSE (in) "Circuit Breaker Sense Pin.", 6 GATE (out) "Gate Drive Output for the External N-channel MOSFET.", 7 DRAIN (in) "Analog Drain Sense Input.", 8 VDD (power) "Positive Supply Voltage Input."

## LT4250HCS8
designator U?
Negative 48 V Hot Swap Controller, -18 to -80 V Vin, 8-pin SOIC (S8-8), 0 to 70 degC; Manufacturer: Linear Technology; PartNumber: LT4250HCS8; Active Limiting: yes; Circuit Breaker Accuracy(%): 20; Circuit Breaker Threshold: 50 mV; Circuit Breakers(#): 1; Extended Temp: C, I; Fast Comparator: no; In-Rush Current: Miller Cap; DatasheetVersion: Rev. A; PackageVersion: Rev. G, 03/2012; PackageReference: S8-8; PackageDescription: 8-Pin Plastic Small Outline (Narrow .150 Inch), Body 4.9 x 3.9 mm, Pitch 1.27 mm; Supplier 1: Digi-Key; Supplier Part Number 1: LT4250HCS8-ND; Power Good: yes; RoHS: FALSE; Vin Range: -18 to -80 V; Mounting Technology: Surface Mount; ComponentLink1Description: Manufacturer URL; ComponentLink1URL: http://www.linear.com/; ComponentLink2Description: Datasheet; ComponentLink2URL: http://cds.linear.com/docs/en/datasheet/4250lhfa.pdf; ComponentLink3Description: Package Specification; ComponentLink3URL: http://cds.linear.com/docs/en/packaging/05081610_G_SO8.pdf
footprint LT-S8-8_N (SOIC, 8-Leads, Body 5x4mm, Pitch 1.27mm, IPC Medium Density)
footprint LT-S8-8_L (SOIC, 8-Leads, Body 5x4mm, Pitch 1.27mm, IPC High Density)
footprint LT-S8-8_M (SOIC, 8-Leads, Body 5x4mm, Pitch 1.27mm, IPC Low Density)
pins: 1 PWRGD (out) "Power Good Output Pin.This pin will latch a power good indication when VDRAIN is within VDL of VEE and VGATE is within VGH of deltaVGATE. This pin can be connected directly to the enable pin of a power module.", 2 OV (in) "Analog Overvoltage Input.", 3 UV (in) "Analog Undervoltage Input.", 4 VEE (power) "Negative Supply Voltage Input. Connect to the lower potential of the power supply.", 5 SENSE (in) "Circuit Breaker Sense Pin.", 6 GATE (out) "Gate Drive Output for the External N-channel MOSFET.", 7 DRAIN (in) "Analog Drain Sense Input.", 8 VDD (power) "Positive Supply Voltage Input."

## LT4250HCS8#PBF
designator U?
Negative 48 V Hot Swap Controller, -18 to -80 V Vin, 8-pin SOIC (S8-8), 0 to 70 degC, Pb-Free; Manufacturer: Linear Technology; PartNumber: LT4250HCS8#PBF; Active Limiting: yes; Circuit Breaker Accuracy(%): 20; Circuit Breaker Threshold: 50 mV; Circuit Breakers(#): 1; Extended Temp: C, I; Fast Comparator: no; In-Rush Current: Miller Cap; DatasheetVersion: Rev. A; PackageVersion: Rev. G, 03/2012; PackageReference: S8-8; PackageDescription: 8-Pin Plastic Small Outline (Narrow .150 Inch), Body 4.9 x 3.9 mm, Pitch 1.27 mm; Supplier 1: Digi-Key; Supplier Part Number 1: LT4250HCS8#PBF-ND; Supplier 2: Farnell; Supplier Part Number 2: 2295303; Supplier 3: Newark; Supplier Part Number 3: 57M8652; Power Good: yes; RoHS: TRUE; Vin Range: -18 to -80 V; Mounting Technology: Surface Mount; ComponentLink1Description: Manufacturer URL; ComponentLink1URL: http://www.linear.com/; ComponentLink2Description: Datasheet; ComponentLink2URL: http://cds.linear.com/docs/en/datasheet/4250lhfa.pdf; ComponentLink3Description: Package Specification; ComponentLink3URL: http://cds.linear.com/docs/en/packaging/05081610_G_SO8.pdf
footprint LT-S8-8_N (SOIC, 8-Leads, Body 5x4mm, Pitch 1.27mm, IPC Medium Density)
footprint LT-S8-8_L (SOIC, 8-Leads, Body 5x4mm, Pitch 1.27mm, IPC High Density)
footprint LT-S8-8_M (SOIC, 8-Leads, Body 5x4mm, Pitch 1.27mm, IPC Low Density)
pins: 1 PWRGD (out) "Power Good Output Pin.This pin will latch a power good indication when VDRAIN is within VDL of VEE and VGATE is within VGH of deltaVGATE. This pin can be connected directly to the enable pin of a power module.", 2 OV (in) "Analog Overvoltage Input.", 3 UV (in) "Analog Undervoltage Input.", 4 VEE (power) "Negative Supply Voltage Input. Connect to the lower potential of the power supply.", 5 SENSE (in) "Circuit Breaker Sense Pin.", 6 GATE (out) "Gate Drive Output for the External N-channel MOSFET.", 7 DRAIN (in) "Analog Drain Sense Input.", 8 VDD (power) "Positive Supply Voltage Input."

## LT4250HCS8#TR
designator U?
Negative 48 V Hot Swap Controller, -18 to -80 V Vin, 8-pin SOIC (S8-8), 0 to 70 degC, Tape and Reel; Manufacturer: Linear Technology; PartNumber: LT4250HCS8#TR; Active Limiting: yes; Circuit Breaker Accuracy(%): 20; Circuit Breaker Threshold: 50 mV; Circuit Breakers(#): 1; Extended Temp: C, I; Fast Comparator: no; In-Rush Current: Miller Cap; DatasheetVersion: Rev. A; PackageVersion: Rev. G, 03/2012; PackageReference: S8-8; PackageDescription: 8-Pin Plastic Small Outline (Narrow .150 Inch), Body 4.9 x 3.9 mm, Pitch 1.27 mm; Supplier 1: Digi-Key; Supplier Part Number 1: LT4250HCS8TR-ND; Packing: Tape and Reel; Power Good: yes; RoHS: FALSE; Vin Range: -18 to -80 V; Mounting Technology: Surface Mount; ComponentLink1Description: Manufacturer URL; ComponentLink1URL: http://www.linear.com/; ComponentLink2Description: Datasheet; ComponentLink2URL: http://cds.linear.com/docs/en/datasheet/4250lhfa.pdf; ComponentLink3Description: Package Specification; ComponentLink3URL: http://cds.linear.com/docs/en/packaging/05081610_G_SO8.pdf
footprint LT-S8-8_N (SOIC, 8-Leads, Body 5x4mm, Pitch 1.27mm, IPC Medium Density)
footprint LT-S8-8_L (SOIC, 8-Leads, Body 5x4mm, Pitch 1.27mm, IPC High Density)
footprint LT-S8-8_M (SOIC, 8-Leads, Body 5x4mm, Pitch 1.27mm, IPC Low Density)
pins: 1 PWRGD (out) "Power Good Output Pin.This pin will latch a power good indication when VDRAIN is within VDL of VEE and VGATE is within VGH of deltaVGATE. This pin can be connected directly to the enable pin of a power module.", 2 OV (in) "Analog Overvoltage Input.", 3 UV (in) "Analog Undervoltage Input.", 4 VEE (power) "Negative Supply Voltage Input. Connect to the lower potential of the power supply.", 5 SENSE (in) "Circuit Breaker Sense Pin.", 6 GATE (out) "Gate Drive Output for the External N-channel MOSFET.", 7 DRAIN (in) "Analog Drain Sense Input.", 8 VDD (power) "Positive Supply Voltage Input."

## LT4250HCS8#TRPBF
designator U?
Negative 48 V Hot Swap Controller, -18 to -80 V Vin, 8-pin SOIC (S8-8), 0 to 70 degC, Pb-Free, Tape and Reel; Manufacturer: Linear Technology; PartNumber: LT4250HCS8#TRPBF; Active Limiting: yes; Circuit Breaker Accuracy(%): 20; Circuit Breaker Threshold: 50 mV; Circuit Breakers(#): 1; Extended Temp: C, I; Fast Comparator: no; In-Rush Current: Miller Cap; DatasheetVersion: Rev. A; PackageVersion: Rev. G, 03/2012; PackageReference: S8-8; PackageDescription: 8-Pin Plastic Small Outline (Narrow .150 Inch), Body 4.9 x 3.9 mm, Pitch 1.27 mm; Supplier 1: Digi-Key; Supplier Part Number 1: LT4250HCS8#TRPBF-ND; Packing: Tape and Reel; Power Good: yes; RoHS: TRUE; Vin Range: -18 to -80 V; Mounting Technology: Surface Mount; ComponentLink1Description: Manufacturer URL; ComponentLink1URL: http://www.linear.com/; ComponentLink2Description: Datasheet; ComponentLink2URL: http://cds.linear.com/docs/en/datasheet/4250lhfa.pdf; ComponentLink3Description: Package Specification; ComponentLink3URL: http://cds.linear.com/docs/en/packaging/05081610_G_SO8.pdf
footprint LT-S8-8_N (SOIC, 8-Leads, Body 5x4mm, Pitch 1.27mm, IPC Medium Density)
footprint LT-S8-8_L (SOIC, 8-Leads, Body 5x4mm, Pitch 1.27mm, IPC High Density)
footprint LT-S8-8_M (SOIC, 8-Leads, Body 5x4mm, Pitch 1.27mm, IPC Low Density)
pins: 1 PWRGD (out) "Power Good Output Pin.This pin will latch a power good indication when VDRAIN is within VDL of VEE and VGATE is within VGH of deltaVGATE. This pin can be connected directly to the enable pin of a power module.", 2 OV (in) "Analog Overvoltage Input.", 3 UV (in) "Analog Undervoltage Input.", 4 VEE (power) "Negative Supply Voltage Input. Connect to the lower potential of the power supply.", 5 SENSE (in) "Circuit Breaker Sense Pin.", 6 GATE (out) "Gate Drive Output for the External N-channel MOSFET.", 7 DRAIN (in) "Analog Drain Sense Input.", 8 VDD (power) "Positive Supply Voltage Input."

## LT4250HIN8
designator U?
Negative 48 V Hot Swap Controller, -18 to -80 V Vin, 8-pin DIP (N8-8), -40 to 85 degC; Manufacturer: Linear Technology; PartNumber: LT4250HIN8; Active Limiting: yes; Circuit Breaker Accuracy(%): 20; Circuit Breaker Threshold: 50 mV; Circuit Breakers(#): 1; Extended Temp: C, I; Fast Comparator: no; In-Rush Current: Miller Cap; DatasheetVersion: Rev. A; PackageVersion: Rev. I, 07/2011; PackageReference: N8-8; PackageDescription: 8-Pin PDIP, Body 10.16 x 6.48 mm, Pitch 2.54 mm; Supplier 1: Digi-Key; Supplier Part Number 1: LT4250HIN8-ND; Power Good: yes; RoHS: FALSE; Vin Range: -18 to -80 V; Mounting Technology: Through Hole; ComponentLink1Description: Manufacturer URL; ComponentLink1URL: http://www.linear.com/; ComponentLink2Description: Datasheet; ComponentLink2URL: http://cds.linear.com/docs/en/datasheet/4250lhfa.pdf; ComponentLink3Description: Package Specification; ComponentLink3URL: http://www.linear.com/docs/en/packaging/05081510_I_N8.pdf
footprint LT-N8-8 (DIP, 8-Leads, Body 10.15x6.85mm, Pitch 2.54mm)
pins: 1 PWRGD (out) "Power Good Output Pin.This pin will latch a power good indication when VDRAIN is within VDL of VEE and VGATE is within VGH of deltaVGATE. This pin can be connected directly to the enable pin of a power module.", 2 OV (in) "Analog Overvoltage Input.", 3 UV (in) "Analog Undervoltage Input.", 4 VEE (power) "Negative Supply Voltage Input. Connect to the lower potential of the power supply.", 5 SENSE (in) "Circuit Breaker Sense Pin.", 6 GATE (out) "Gate Drive Output for the External N-channel MOSFET.", 7 DRAIN (in) "Analog Drain Sense Input.", 8 VDD (power) "Positive Supply Voltage Input."

## LT4250HIN8#PBF
designator U?
Negative 48 V Hot Swap Controller, -18 to -80 V Vin, 8-pin DIP (N8-8), -40 to 85 degC, Pb-Free; Manufacturer: Linear Technology; PartNumber: LT4250HIN8#PBF; Active Limiting: yes; Circuit Breaker Accuracy(%): 20; Circuit Breaker Threshold: 50 mV; Circuit Breakers(#): 1; Extended Temp: C, I; Fast Comparator: no; In-Rush Current: Miller Cap; DatasheetVersion: Rev. A; PackageVersion: Rev. I, 07/2011; PackageReference: N8-8; PackageDescription: 8-Pin PDIP, Body 10.16 x 6.48 mm, Pitch 2.54 mm; Supplier 1: Digi-Key; Supplier Part Number 1: LT4250HIN8#PBF-ND; Power Good: yes; RoHS: TRUE; Vin Range: -18 to -80 V; Mounting Technology: Through Hole; ComponentLink1Description: Manufacturer URL; ComponentLink1URL: http://www.linear.com/; ComponentLink2Description: Datasheet; ComponentLink2URL: http://cds.linear.com/docs/en/datasheet/4250lhfa.pdf; ComponentLink3Description: Package Specification; ComponentLink3URL: http://www.linear.com/docs/en/packaging/05081510_I_N8.pdf
footprint LT-N8-8 (DIP, 8-Leads, Body 10.15x6.85mm, Pitch 2.54mm)
pins: 1 PWRGD (out) "Power Good Output Pin.This pin will latch a power good indication when VDRAIN is within VDL of VEE and VGATE is within VGH of deltaVGATE. This pin can be connected directly to the enable pin of a power module.", 2 OV (in) "Analog Overvoltage Input.", 3 UV (in) "Analog Undervoltage Input.", 4 VEE (power) "Negative Supply Voltage Input. Connect to the lower potential of the power supply.", 5 SENSE (in) "Circuit Breaker Sense Pin.", 6 GATE (out) "Gate Drive Output for the External N-channel MOSFET.", 7 DRAIN (in) "Analog Drain Sense Input.", 8 VDD (power) "Positive Supply Voltage Input."

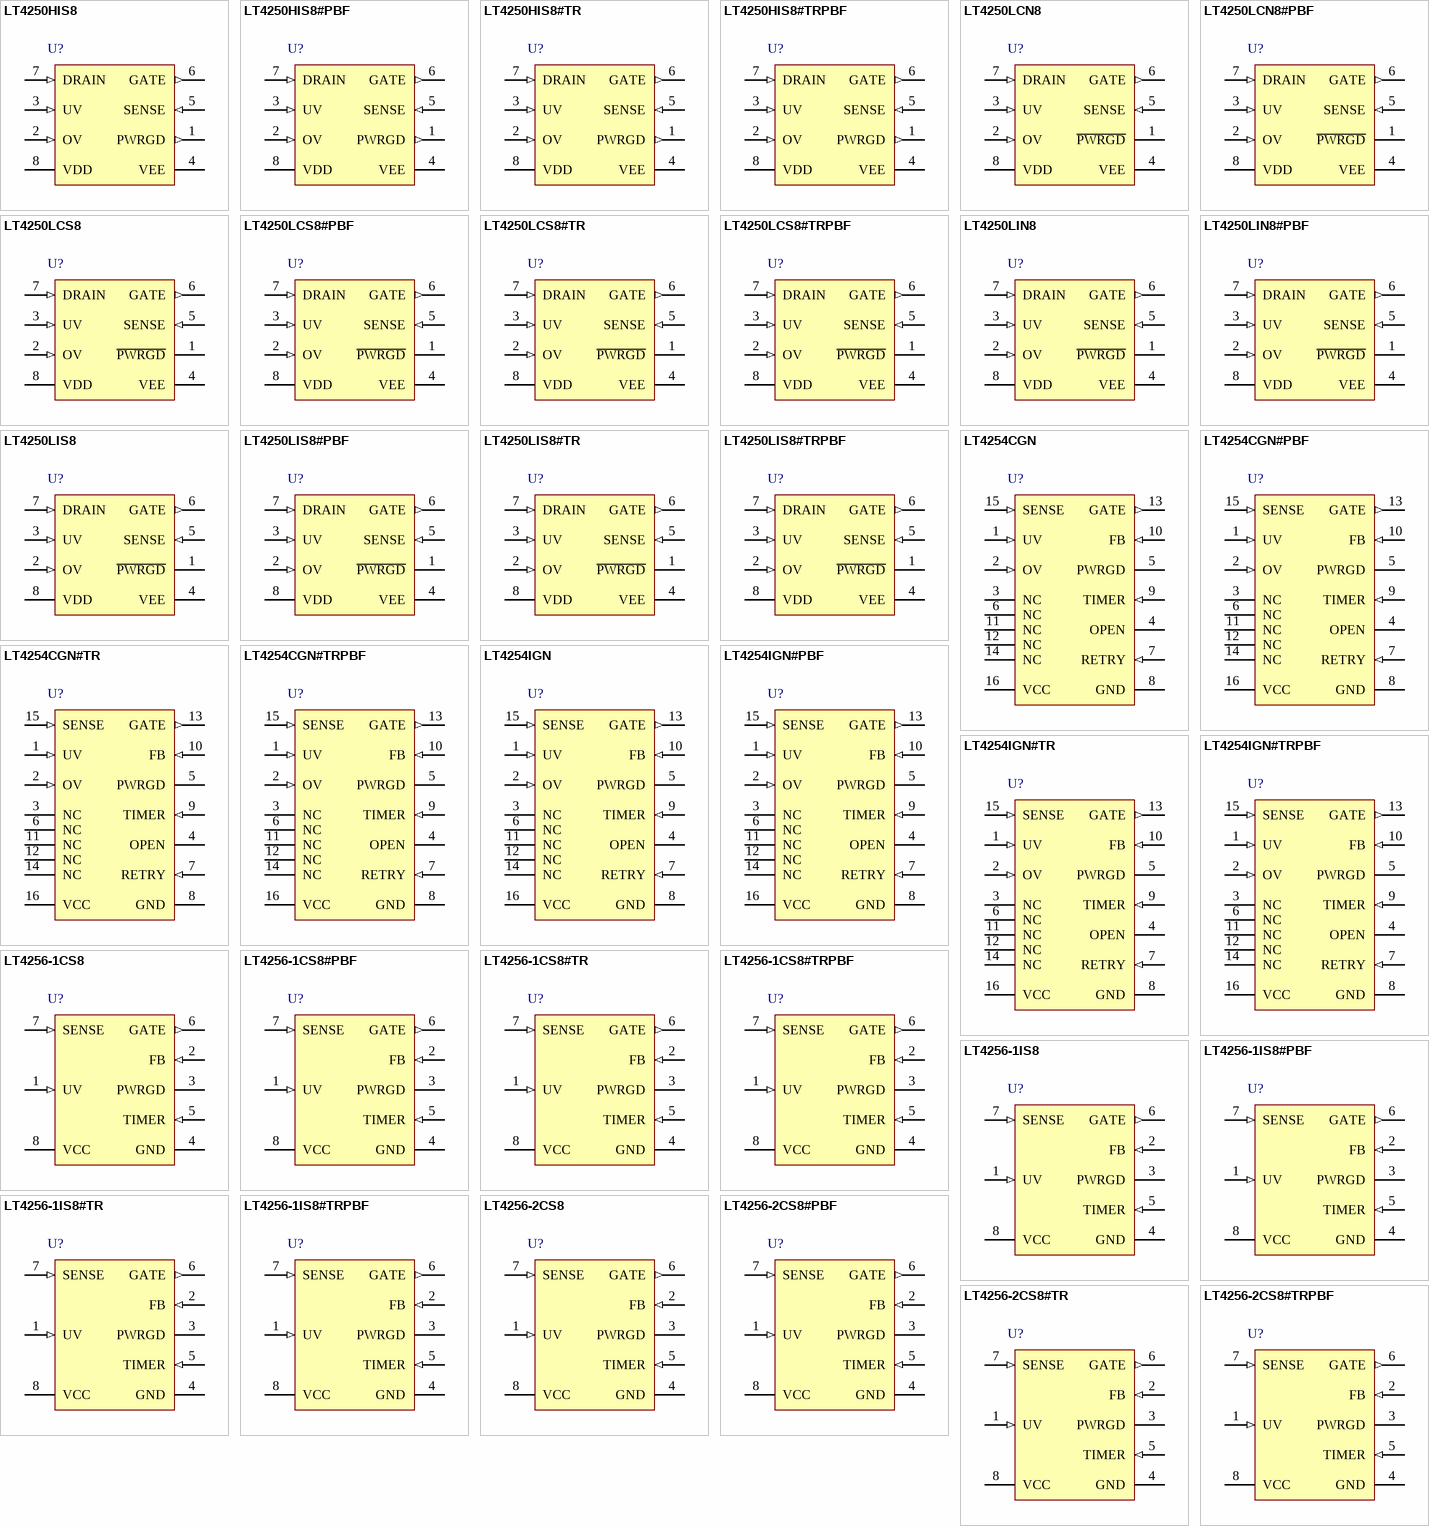
[diagram p1: symbols LT4250HIS8 to LT4256-2CS8#TRPBF]